# Altium footprint library ГК-108-П.PcbLib: 1 footprints
Each footprint in its own frame and in the unit in brackets; x right, y up, seen from the top. Pads: shape width x height; smd on the part's side, far side on the other; paste and mask are expansions set on the pad; w line width, h text height; cw(c..) or ccw(c..) is an arc to the next point about the centre after c.
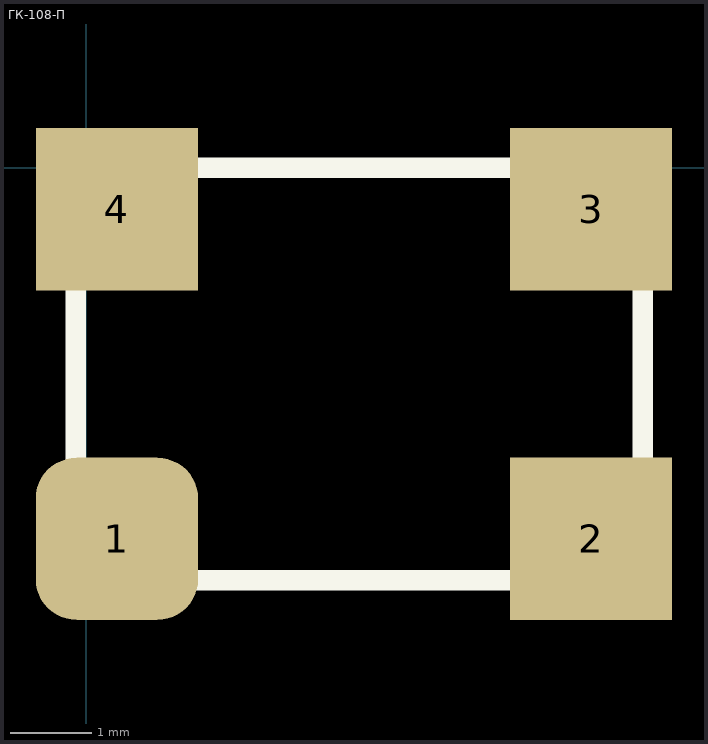
[diagram p0: the footprint, top view; thin cyan lines are the x and y axes]

## ГК-108-П [mm]
pads (4):
  rrect50% 2x2 smd: 1(0.381,-4.572)
  rect 2x2 smd: 2(6.223,-4.572) 3(6.223,-0.508) 4(0.381,-0.508)
Top Overlay:
  lines w0.254: -0.127,-4.191 0.762,-5.08 6.858,-5.08 6.858,0 -0.127,0 -0.127,-4.191
3D body: height 1.6, standoff 0.18, extent 0,-5.08 6.858,0